# Altium schematic symbol library manual.SchLib: 11 symbols
Pins are listed as number, name and electrical type; pins without a type are passive.

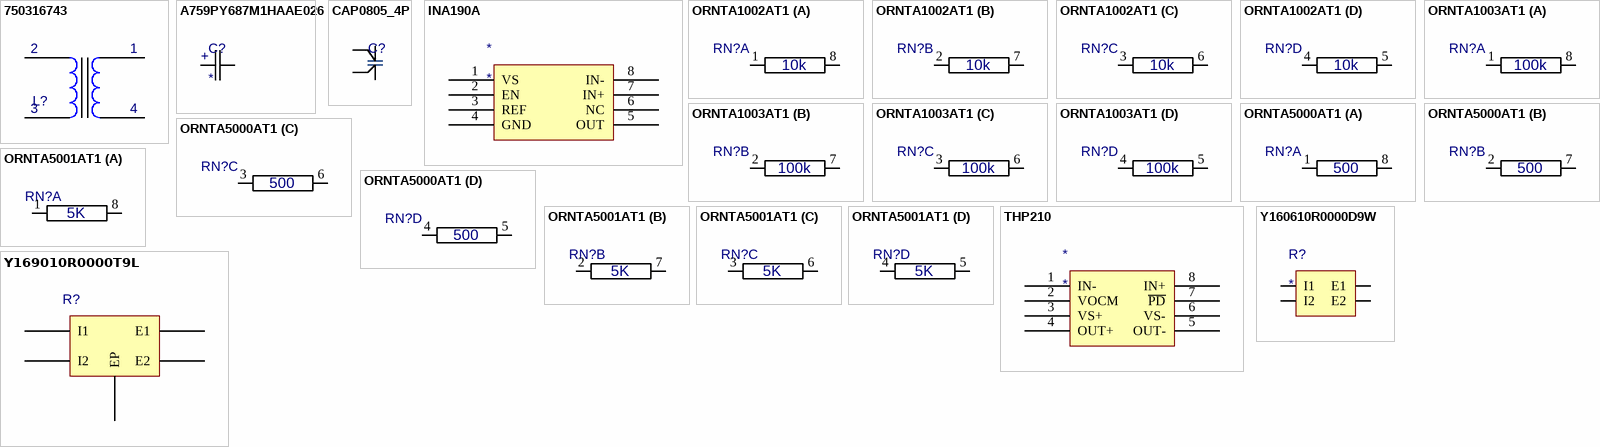
[diagram p0: symbols 750316743 to ‎Y169010R0000T9L‎]

## 750316743
designator L?  (value not drawn)
footprint 750316743
pins: 1, 2, 3, 4

## A759PY687M1HAAE026
designator C?
footprint A759PY687M1HAAE026
pins: 1, 2
text: +

## CAP0805_4P
designator C?, comment CAP08054P  (value not drawn)
footprint CAP0805_4P
pins: 1, 2, 3, 4

## INA190A
designator *
footprint TSOP65P280X110-8N (TSOP, 8-Leads, Body 2.90x1.60mm, Pitch 0.65mm, IPC Medium Density)
pins: 1 VS, 2 EN, 3 REF, 4 GND, 5 OUT, 6 NC, 7 IN+, 8 IN-

## ORNTA1002AT1
designator RN?  (value not drawn)
RES ARRAY 4 RES 10K OHM 8SOIC; Datasheet: http://www.vishay.com/docs/60005/orn.pdf
footprint SOIC127P610X173-8M (SOIC, 8-Leads, Body 4.93x3.99mm, Pitch 1.27mm, IPC Low Density)
part A pins: 1, 8
part B pins: 2, 7
part C pins: 3, 6
part D pins: 4, 5
part A text: 10k
part B text: 10k
part C text: 10k
part D text: 10k

## ORNTA1003AT1
designator RN?  (value not drawn)
RES ARRAY 4 RES 100K OHM 8SOIC; Datasheet: http://www.vishay.com/docs/60005/orn.pdf
footprint SOIC127P610X173-8M (SOIC, 8-Leads, Body 4.93x3.99mm, Pitch 1.27mm, IPC Low Density)
part A pins: 1, 8
part B pins: 2, 7
part C pins: 3, 6
part D pins: 4, 5
part A text: 100k
part B text: 100k
part C text: 100k
part D text: 100k

## ORNTA5000AT1
designator RN?, comment ORNTA1002AT1  (value not drawn)
RES ARRAY 4 RES 10K OHM 8SOIC; Datasheet: http://www.vishay.com/docs/60005/orn.pdf
footprint SOIC127P610X173-8M (Footprint not found)
part A pins: 1, 8
part B pins: 2, 7
part C pins: 3, 6
part D pins: 4, 5
part A text: 500
part B text: 500
part C text: 500
part D text: 500

## ORNTA5001AT1
designator RN?, comment ORNTA1002AT1  (value not drawn)
RES ARRAY 4 RES 10K OHM 8SOIC; Datasheet: http://www.vishay.com/docs/60005/orn.pdf
footprint SOIC127P610X173-8M (Footprint not found)
part A pins: 1, 8
part B pins: 2, 7
part C pins: 3, 6
part D pins: 4, 5
part A text: 5K
part B text: 5K
part C text: 5K
part D text: 5K

## THP210
designator *
footprint TSOP65P490X110-8N (TSOP, 8-Leads, Body 3.00x3.00mm, Pitch 0.65mm, IPC Medium Density)
pins: 1 IN-, 2 VOCM, 3 VS+, 4 OUT+, 5 OUT-, 6 VS-, 7 ~{PD}, 8 IN+

## Y160610R0000D9W
designator R?
footprint RShunt
pins: 1 I1, 2 I2, 3 E1, 4 E2

## ‎Y169010R0000T9L‎
designator R?  (value not drawn)
footprint RSHUNT_TO-220
pins: 1 I1, 2 E1, 3 E2, 4 I2, 5 EP